# Altium footprint library BASIC Library.PCBLIB: 464 footprints (part 24 of 30)
Each footprint in its own frame and in the unit in brackets; x right, y up, seen from the top. Pads: shape width x height; smd on the part's side, far side on the other; paste and mask are expansions set on the pad; w line width, h text height; cw(c..) or ccw(c..) is an arc to the next point about the centre after c.
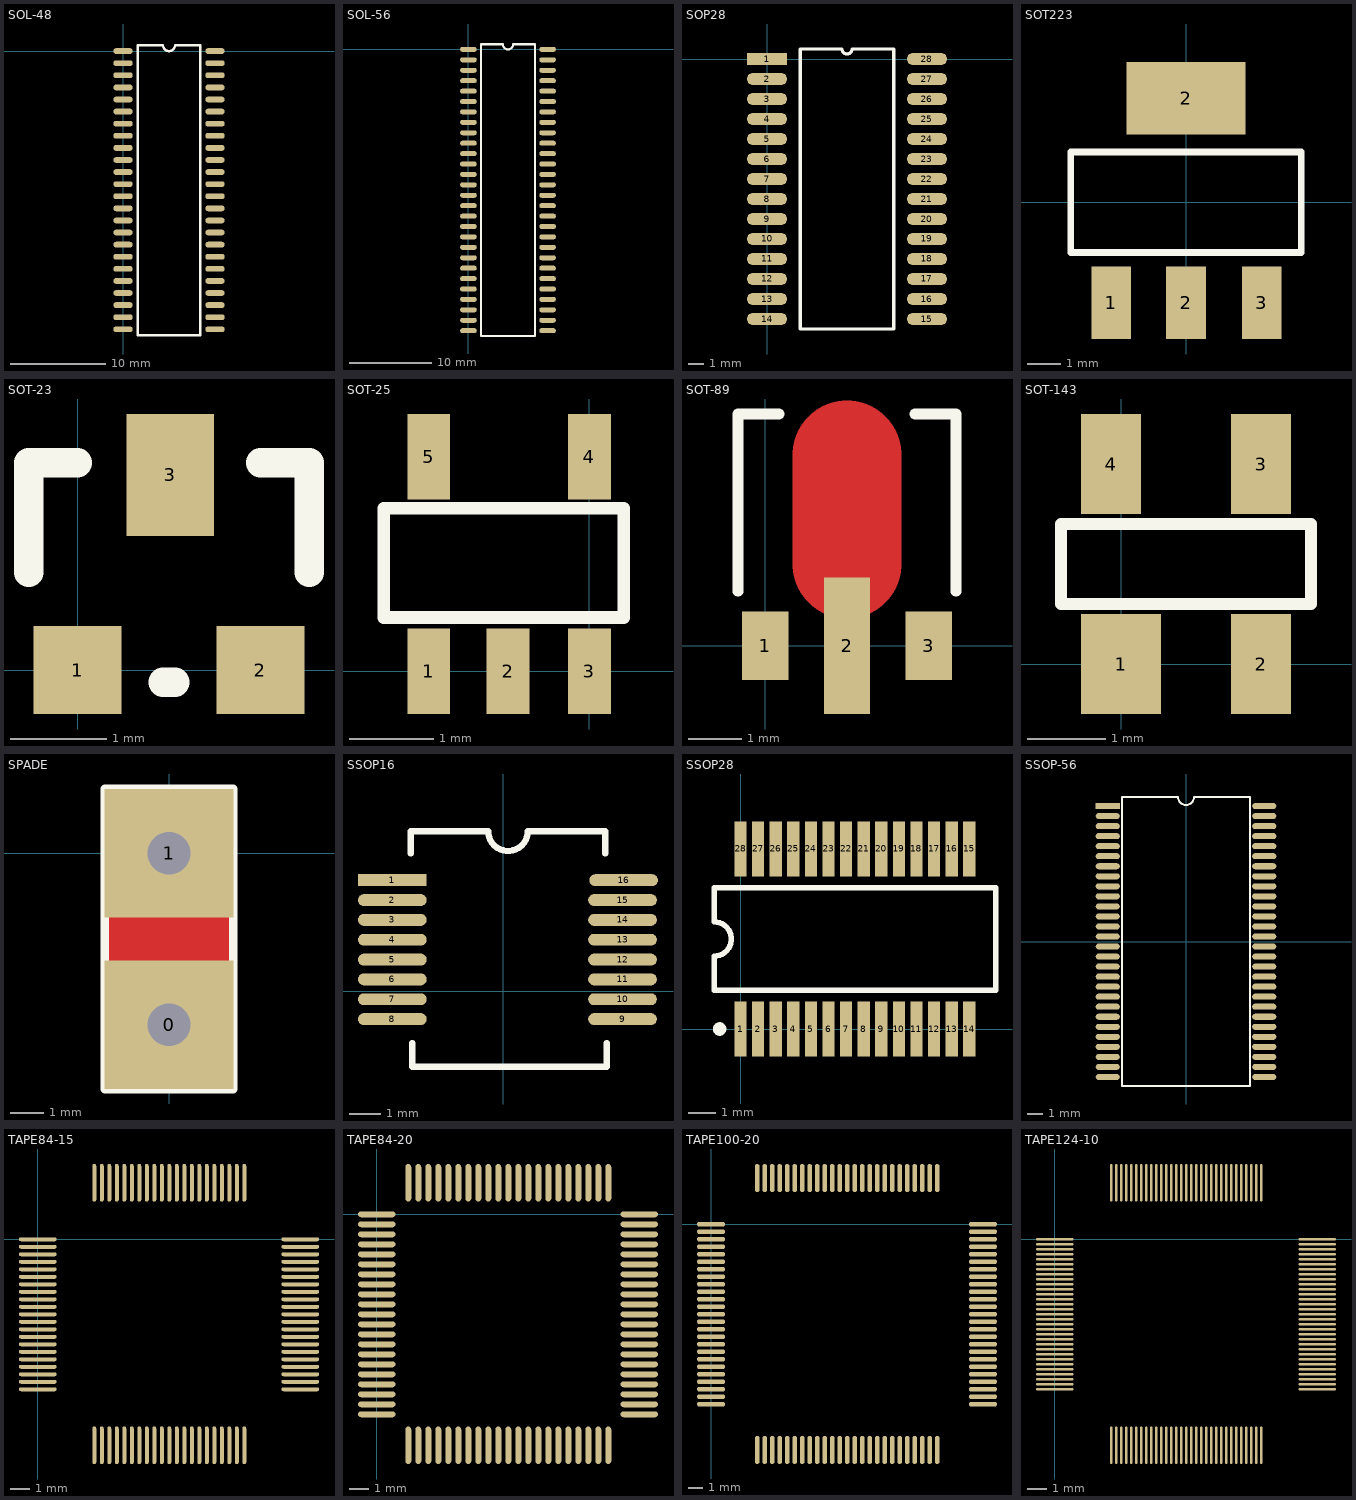
[diagram p23: the footprints below, top view; thin cyan lines are the x and y axes]

## SOL-48 [mil]
pads (48):
  oval 80x24 smd: 1(0,0) 2(0,-50) 3(0,-100) 4(0,-150) 5(0,-200) 6(0,-250) 7(0,-300) 8(0,-350) 9(0,-400) 10(0,-450) 11(0,-500) 12(0,-550) 13(0,-600) 14(0,-650) 15(0,-700) 16(0,-750) 17(0,-800) 18(0,-850) 19(0,-900) 20(0,-950) 21(0,-1000) 22(0,-1050) 23(0,-1100) 24(0,-1150) 25(380,-1150) 26(380,-1100) 27(380,-1050) 28(380,-1000) 29(380,-950) 30(380,-900) 31(380,-850) 32(380,-800) 33(380,-750) 34(380,-700) 35(380,-650) 36(380,-600) 37(380,-550) 38(380,-500) 39(380,-450) 40(380,-400) 41(380,-350) 42(380,-300) 43(380,-250) 44(380,-200) 45(380,-150) 46(380,-100) 47(380,-50) 48(380,0)
TopOverlay:
  lines w10: 60,-1175 320,-1175 320,25 215,25 cw(c190,25) 165,25 60,25 60,-1175

## SOL-56 [mil]
pads (56):
  oval 80x24 smd: 1(0,0) 2(0,-50) 3(0,-100) 4(0,-150) 5(0,-200) 6(0,-250) 7(0,-300) 8(0,-350) 9(0,-400) 10(0,-450) 11(0,-500) 12(0,-550) 13(0,-600) 14(0,-650) 15(0,-700) 16(0,-750) 17(0,-800) 18(0,-850) 19(0,-900) 20(0,-950) 21(0,-1000) 22(0,-1050) 23(0,-1100) 24(0,-1150) 25(0,-1200) 26(0,-1250) 27(0,-1300) 28(0,-1350) 29(380,-1350) 30(380,-1300) 31(380,-1250) 32(380,-1200) 33(380,-1150) 34(380,-1100) 35(380,-1050) 36(380,-1000) 37(380,-950) 38(380,-900) 39(380,-850) 40(380,-800) 41(380,-750) 42(380,-700) 43(380,-650) 44(380,-600) 45(380,-550) 46(380,-500) 47(380,-450) 48(380,-400) 49(380,-350) 50(380,-300) 51(380,-250) 52(380,-200) 53(380,-150) 54(380,-100) 55(380,-50) 56(380,0)
TopOverlay:
  lines w10: 60,-1375 60,25 165,25 ccw(c190,25) 215,25 320,25 320,-1375 60,-1375

## SOP28 [mil]
pads (28):
  rect 100x30 smd: 1(0,0)
  oval 100x30 smd: 2(0,-50) 3(0,-100) 4(0,-150) 5(0,-200) 6(0,-250) 7(0,-300) 8(0,-350) 9(0,-400) 10(0,-450) 11(0,-500) 12(0,-550) 13(0,-600) 14(0,-650) 15(400,-650) 16(400,-600) 17(400,-550) 18(400,-500) 19(400,-450) 20(400,-400) 21(400,-350) 22(400,-300) 23(400,-250) 24(400,-200) 25(400,-150) 26(400,-100) 27(400,-50) 28(400,0)
TopOverlay:
  lines w8: 83,-675 83,25 187.5,25 ccw(c200,25) 212.5,25 317,25 317,-675 83,-675

## SOT223 [mm]
pads (4):
  rect 1.2x2.2 smd: 1(-2.286,-3.048) 2(-0.014,-3.048) 3(2.286,-3.048)
  rect 3.6x2.2 smd: 2(-0.014,3.152)
TopOverlay:
  lines w0.203: -3.514,-1.524 -3.514,1.524 3.486,1.524 3.486,-1.524 -3.514,-1.524

## SOT-23 [mil]
pads (3):
  rect 36x36 smd: 1(0,0) 2(75,0)
  rect 36x50 smd: 3(38,80)
TopOverlay:
  lines w12: -20,40 -20,85 0,85 ; 35,-5 40,-5 ; 75,85 95,85 95,40

## SOT-25 [mil]
pads (5):
  rect 20x40 smd: 1(-75,0) 2(-38,0) 3(0,0) 4(0,100) 5(-75,100)
TopOverlay:
  lines w6: -96,25 -96,76 16,76 16,25 -96,25

## SOT-89 [mil]
pads (3):
  rect 34x50 smd: 1(0,0) 3(120,0)
  rect 34x100 smd: 2(60,0)
TopLayer:
  lines w80: 60,60 60,140
TopOverlay:
  lines w8: -20,40 -20,170 10,170 ; 110,170 140,170 140,40

## SOT-143 [mil]
pads (4):
  rect 40x50 smd: 1(0,0)
  rect 30x50 smd: 2(70,0) 3(70,100) 4(-5,100)
TopOverlay:
  lines w6: -30,30 -30,70 95,70 95,30 -30,30

## SPADE [mil]
pads (2):
  rect 150x150 hole 50: 0(0,-200) 1(0,0)
TopLayer:
  rectangle: -75,-150 75,-50
BottomLayer:
  rectangle: -75,-150 75,-50
TopOverlay:
  lines w10: -75,-275 -75,75 75,75 75,-275 -75,-275

## SSOP16 [mil]
pads (16):
  rect 86.61x15 smd: 1(-140,140)
  oval 86.61x15 smd: 2(-140,115) 3(-140,90) 4(-140,65) 5(-140,40) 6(-140,15) 7(-140,-10) 8(-140,-35) 9(150,-35) 10(150,-10) 11(150,15) 12(150,40) 13(150,65) 14(150,90) 15(150,115) 16(151.34,140)
TopOverlay:
  lines w7.87: -116.77,173.47 -116.77,201.81 -19.33,201.81 ccw(c5.67,201.81) 30.67,201.81 128.11,201.81 128.11,173.47 ; -115,-93.35 -115,-65 ; -114.88,-95 130,-95 ; 130,-93.35 130,-65

## SSOP28 [mm]
pads (28):
  rect 0.45x2.05 smd: 1(0,0) 2(0.65,0) 3(1.3,0) 4(1.95,0) 5(2.6,0) 6(3.25,0) 7(3.9,0) 8(4.55,0) 9(5.2,0) 10(5.85,0) 11(6.5,0) 12(7.15,0) 13(7.8,0) 14(8.45,0) 15(8.45,6.65) 16(7.8,6.65) 17(7.15,6.65) 18(6.5,6.65) 19(5.85,6.65) 20(5.2,6.65) 21(4.55,6.65) 22(3.9,6.65) 23(3.25,6.65) 24(2.6,6.65) 25(1.95,6.65) 26(1.3,6.65) 27(0.65,6.65) 28(0,6.65)
TopOverlay:
  circle w0.25: c-0.775,0 r0.125
  lines w0.2: -0.975,1.425 9.425,1.425 9.425,5.225 -0.975,5.225 -0.975,3.958 cw(c-0.975,3.325) -0.975,2.692 -0.975,1.425

## SSOP-56 [mil]
pads (56):
  rect 60x15 smd: 1(-195,337.5)
  oval 60x15 smd: 2(-195,312.5) 3(-195,287.5) 4(-195,262.5) 5(-195,237.5) 6(-195,212.5) 7(-195,187.5) 8(-195,162.5) 9(-195,137.5) 10(-195,112.5) 11(-195,87.5) 12(-195,62.5) 13(-195,37.5) 14(-195,12.5) 15(-195,-12.5) 16(-195,-37.5) 17(-195,-62.5) 18(-195,-87.5) 19(-195,-112.5) 20(-195,-137.5) 21(-195,-162.5) 22(-195,-187.5) 23(-195,-212.5) 24(-195,-237.5) 25(-195,-262.5) 26(-195,-287.5) 27(-195,-312.5) 28(-195,-337.5) 29(195,-337.5) 30(195,-312.5) 31(195,-287.5) 32(195,-262.5) 33(195,-237.5) 34(195,-212.5) 35(195,-187.5) 36(195,-162.5) 37(195,-137.5) 38(195,-112.5) 39(195,-87.5) 40(195,-62.5) 41(195,-37.5) 42(195,-12.5) 43(195,12.5) 44(195,37.5) 45(195,62.5) 46(195,87.5) 47(195,112.5) 48(195,137.5) 49(195,162.5) 50(195,187.5) 51(195,212.5) 52(195,237.5) 53(195,262.5) 54(195,287.5) 55(195,312.5) 56(195,337.5)
TopOverlay:
  lines w5: -160,-360 160,-360 160,360 20,360 cw(c0,360) 0,340 cw(c0,360) -20,360 -160,360 -160,-360

## TAPE84-15 [mil]
pads (84):
  oval 75x8 smd: 1(0,0) 2(0,-15) 3(0,-30) 4(0,-45) 5(0,-60) 6(0,-75) 7(0,-90) 8(0,-105) 9(0,-120) 10(0,-135) 11(0,-150) 12(0,-165) 13(0,-180) 14(0,-195) 15(0,-210) 16(0,-225) 17(0,-240) 18(0,-255) 19(0,-270) 20(0,-285) 21(0,-300) 43(525,-300) 44(525,-285) 45(525,-270) 46(525,-255) 47(525,-240) 48(525,-225) 49(525,-210) 50(525,-195) 51(525,-180) 52(525,-165) 53(525,-150) 54(525,-135) 55(525,-120) 56(525,-105) 57(525,-90) 58(525,-75) 59(525,-60) 60(525,-45) 61(525,-30) 62(525,-15) 63(525,0)
  oval 8x75 smd: 22(113,-412) 23(128,-412) 24(143,-412) 25(158,-412) 26(173,-412) 27(188,-412) 28(203,-412) 29(218,-412) 30(233,-412) 31(248,-412) 32(263,-412) 33(278,-412) 34(293,-412) 35(308,-412) 36(323,-412) 37(338,-412) 38(353,-412) 39(368,-412) 40(383,-412) 41(398,-412) 42(413,-412) 64(413,113) 65(398,113) 66(383,113) 67(368,113) 68(353,113) 69(338,113) 70(323,113) 71(308,113) 72(293,113) 73(278,113) 74(263,113) 75(248,113) 76(233,113) 77(218,113) 78(203,113) 79(188,113) 80(173,113) 81(158,113) 82(143,113) 83(128,113) 84(113,113)

## TAPE84-20 [mil]
pads (84):
  oval 75x12 smd: 1(0,0) 2(0,-20) 3(0,-40) 4(0,-60) 5(0,-80) 6(0,-100) 7(0,-120) 8(0,-140) 9(0,-160) 10(0,-180) 11(0,-200) 12(0,-220) 13(0,-240) 14(0,-260) 15(0,-280) 16(0,-300) 17(0,-320) 18(0,-340) 19(0,-360) 20(0,-380) 21(0,-400) 43(525,-400) 44(525,-380) 45(525,-360) 46(525,-340) 47(525,-320) 48(525,-300) 49(525,-280) 50(525,-260) 51(525,-240) 52(525,-220) 53(525,-200) 54(525,-180) 55(525,-160) 56(525,-140) 57(525,-120) 58(525,-100) 59(525,-80) 60(525,-60) 61(525,-40) 62(525,-20) 63(525,0)
  oval 12x75 smd: 22(63,-462) 23(83,-462) 24(103,-462) 25(123,-462) 26(143,-462) 27(163,-462) 28(183,-462) 29(203,-462) 30(223,-462) 31(243,-462) 32(263,-462) 33(283,-462) 34(303,-462) 35(323,-462) 36(343,-462) 37(363,-462) 38(383,-462) 39(403,-462) 40(423,-462) 41(443,-462) 42(463,-462) 64(463,63) 65(443,63) 66(423,63) 67(403,63) 68(383,63) 69(363,63) 70(343,63) 71(323,63) 72(303,63) 73(283,63) 74(263,63) 75(243,63) 76(223,63) 77(203,63) 78(183,63) 79(163,63) 80(143,63) 81(123,63) 82(103,63) 83(83,63) 84(63,63)

## TAPE100-20 [mil]
pads (100):
  oval 75x12 smd: 1(0,0) 2(0,-20) 3(0,-40) 4(0,-60) 5(0,-80) 6(0,-100) 7(0,-120) 8(0,-140) 9(0,-160) 10(0,-180) 11(0,-200) 12(0,-220) 13(0,-240) 14(0,-260) 15(0,-280) 16(0,-300) 17(0,-320) 18(0,-340) 19(0,-360) 20(0,-380) 21(0,-400) 22(0,-420) 23(0,-440) 24(0,-460) 25(0,-480) 51(725,-480) 52(725,-460) 53(725,-440) 54(725,-420) 55(725,-400) 56(725,-380) 57(725,-360) 58(725,-340) 59(725,-320) 60(725,-300) 61(725,-280) 62(725,-260) 63(725,-240) 64(725,-220) 65(725,-200) 66(725,-180) 67(725,-160) 68(725,-140) 69(725,-120) 70(725,-100) 71(725,-80) 72(725,-60) 73(725,-40) 74(725,-20) 75(725,0)
  oval 12x75 smd: 26(123,-602) 27(143,-602) 28(163,-602) 29(183,-602) 30(203,-602) 31(223,-602) 32(243,-602) 33(263,-602) 34(283,-602) 35(303,-602) 36(323,-602) 37(343,-602) 38(363,-602) 39(383,-602) 40(403,-602) 41(423,-602) 42(443,-602) 43(463,-602) 44(483,-602) 45(503,-602) 46(523,-602) 47(543,-602) 48(563,-602) 49(583,-602) 50(603,-602) 76(603,123) 77(583,123) 78(563,123) 79(543,123) 80(523,123) 81(503,123) 82(483,123) 83(463,123) 84(443,123) 85(423,123) 86(403,123) 87(383,123) 88(363,123) 89(343,123) 90(323,123) 91(303,123) 92(283,123) 93(263,123) 94(243,123) 95(223,123) 96(203,123) 97(183,123) 98(163,123) 99(143,123) 100(123,123)

## TAPE124-10 [mil]
pads (124):
  oval 75x5 smd: 1(0,0) 2(0,-10) 3(0,-20) 4(0,-30) 5(0,-40) 6(0,-50) 7(0,-60) 8(0,-70) 9(0,-80) 10(0,-90) 11(0,-100) 12(0,-110) 13(0,-120) 14(0,-130) 15(0,-140) 16(0,-150) 17(0,-160) 18(0,-170) 19(0,-180) 20(0,-190) 21(0,-200) 22(0,-210) 23(0,-220) 24(0,-230) 25(0,-240) 26(0,-250) 27(0,-260) 28(0,-270) 29(0,-280) 30(0,-290) 31(0,-300) 63(525,-300) 64(525,-290) 65(525,-280) 66(525,-270) 67(525,-260) 68(525,-250) 69(525,-240) 70(525,-230) 71(525,-220) 72(525,-210) 73(525,-200) 74(525,-190) 75(525,-180) 76(525,-170) 77(525,-160) 78(525,-150) 79(525,-140) 80(525,-130) 81(525,-120) 82(525,-110) 83(525,-100) 84(525,-90) 85(525,-80) 86(525,-70) 87(525,-60) 88(525,-50) 89(525,-40) 90(525,-30) 91(525,-20) 92(525,-10) 93(525,0)
  oval 5x75 smd: 32(113,-412) 33(123,-412) 34(133,-412) 35(143,-412) 36(153,-412) 37(163,-412) 38(173,-412) 39(183,-412) 40(193,-412) 41(203,-412) 42(213,-412) 43(223,-412) 44(233,-412) 45(243,-412) 46(253,-412) 47(263,-412) 48(273,-412) 49(283,-412) 50(293,-412) 51(303,-412) 52(313,-412) 53(323,-412) 54(333,-412) 55(343,-412) 56(353,-412) 57(363,-412) 58(373,-412) 59(383,-412) 60(393,-412) 61(403,-412) 62(413,-412) 94(413,113) 95(403,113) 96(393,113) 97(383,113) 98(373,113) 99(363,113) 100(353,113) 101(343,113) 102(333,113) 103(323,113) 104(313,113) 105(303,113) 106(293,113) 107(283,113) 108(273,113) 109(263,113) 110(253,113) 111(243,113) 112(233,113) 113(223,113) 114(213,113) 115(203,113) 116(193,113) 117(183,113) 118(173,113) 119(163,113) 120(153,113) 121(143,113) 122(133,113) 123(123,113) 124(113,113)